# Altium footprint library STL8DN6LF6AG_DUAL ISLAND_1.PcbLib: 1 footprints
Each footprint in its own frame and in the unit in brackets; x right, y up, seen from the top. Pads: shape width x height; smd on the part's side, far side on the other; paste and mask are expansions set on the pad; w line width, h text height; cw(c..) or ccw(c..) is an arc to the next point about the centre after c.
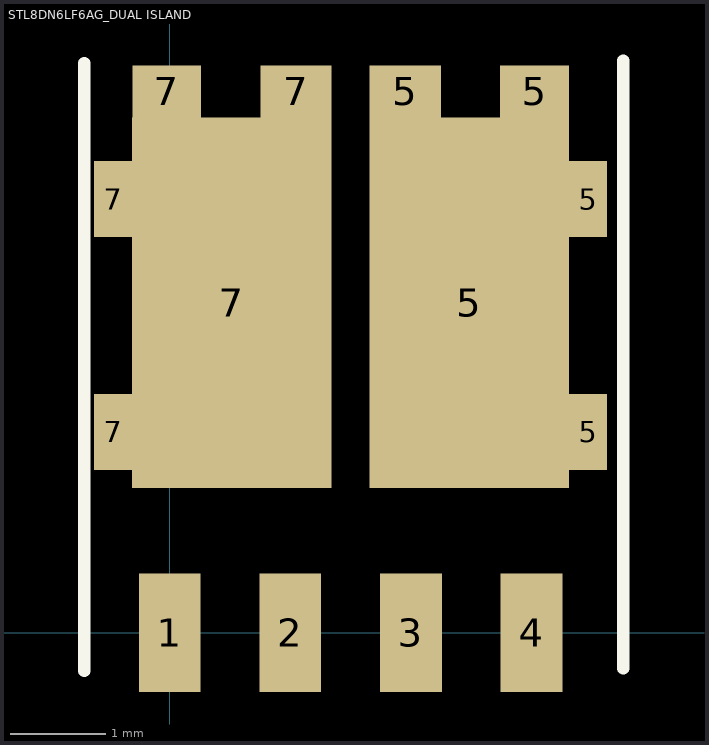
[diagram p0: the footprint, top view; thin cyan lines are the x and y axes]

## STL8DN6LF6AG_DUAL ISLAND [mm]
pads (14):
  rect 0.65x1.25 smd: 1(0,0) 2(1.27,0) 3(2.54,0) 4(3.81,0)
  rect 0.75x0.55 smd: 5(2.48,5.7) 7(1.33,5.7)
  rect 2.1x3.9 smd: 5(3.155,3.475) 7(0.655,3.475)
  rect 0.725x0.55 smd: 5(3.842,5.7) 7(-0.032,5.7)
  rect 0.4x0.8 smd: 5(4.405,2.115) 5(4.405,4.565) 7(-0.595,2.115) 7(-0.595,4.565)
Top Layer:
  region: 5.175,3.875
  region: 2.15,2.325
  region: 1.7,3.95
Top Overlay:
  lines w0.127: -0.9,-0.4 -0.9,6 ; 4.775,-0.375 4.775,6.025